# Altium schematic symbol library IN-12B.SchLib: 1 symbol
Pins are listed as number, name and electrical type; pins without a type are passive.

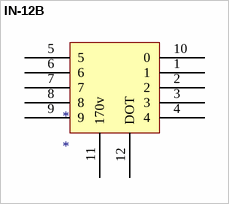
[diagram p0: symbol IN-12B]

## IN-12B
designator *
footprint IN-12B base
pins: 1, 2, 3, 4, 5, 6, 7, 8, 9, 10 0, 11 170v, 12 DOT